# Altium footprint library DISCRETE_T1.PcbLib: 293 footprints (part 16 of 19)
Each footprint in its own frame and in the unit in brackets; x right, y up, seen from the top. Pads: shape width x height; smd on the part's side, far side on the other; paste and mask are expansions set on the pad; w line width, h text height; cw(c..) or ccw(c..) is an arc to the next point about the centre after c.
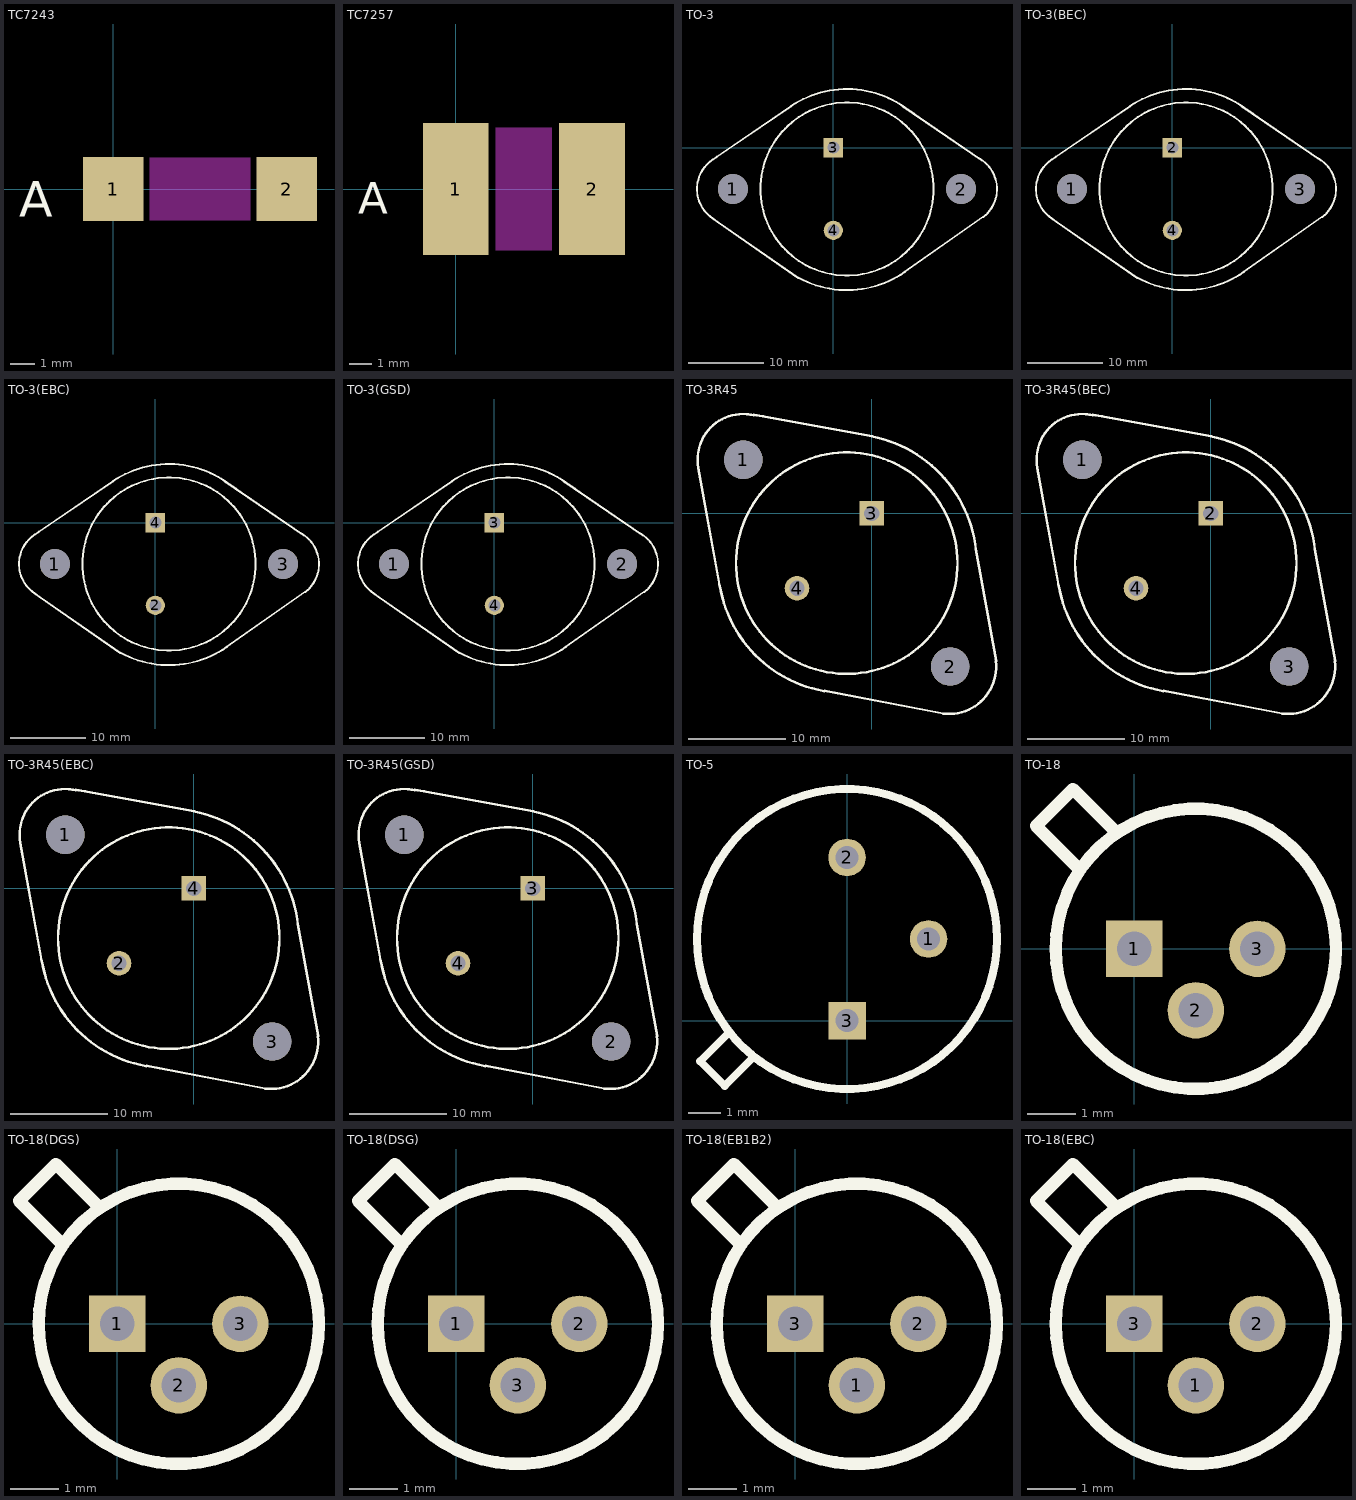
[diagram p15: the footprints below, top view; thin cyan lines are the x and y axes]

## TC7243 [mil]
pads (2):
  rect 96x102 smd: 1(0,0) 2(276,0)
Top Overlay:
  text "A" at -150,-44 h56.88
Multi-Layer keep-out:
  region: 218,-50 218,50 58,50 58,-50

## TC7257 [mil]
pads (2):
  rect 118x236 smd: 1(0,0) 2(244,0)
Top Overlay:
  text "A" at -175,-44 h56.88
Multi-Layer keep-out:
  region: 172,-110 172,110 72,110 72,-110

## TO-3 [mil]
pads (4):
  round 156 hole 156: 1(-523,-215) 2(665,-215)
  rect 100x100 hole 62: 3(0,0)
  round 100 hole 62: 4(0,-430)
Top Overlay:
  circle w10: c71,-215 r450
  lines w10: -640,-71 -604,-47 ; -630,-367 -183,-678 ; -628,-63 -218,217 ; -627.89,-62.46 ccw(c-525,-215) -617,-374.35 ; -219.78,216.1 cw(c71,-215) 369.26,210.96 ; -199.91,-665.87 ccw(c71,-215) 372.7,-645.87 ; 341,230 421,175 ; 359,217 773,-67 ; 363,-651 786,-354 ; 753.38,-52.54 cw(c667,-215) 780.28,-359.99

## TO-3(BEC) [mil]
pads (4):
  round 156 hole 156: 1(-523,-215) 3(665,-215)
  rect 100x100 hole 62: 2(0,0)
  round 100 hole 62: 4(0,-430)
Top Overlay:
  circle w10: c71,-215 r450
  lines w10: -640,-71 -604,-47 ; -630,-367 -183,-678 ; -628,-63 -218,217 ; -627.89,-62.46 ccw(c-525,-215) -617,-374.35 ; -219.78,216.1 cw(c71,-215) 369.26,210.96 ; -199.91,-665.87 ccw(c71,-215) 372.7,-645.87 ; 341,230 421,175 ; 359,217 773,-67 ; 363,-651 786,-354 ; 753.38,-52.54 cw(c667,-215) 780.28,-359.99

## TO-3(EBC) [mil]
pads (4):
  round 156 hole 156: 1(-523,-215) 3(665,-215)
  round 100 hole 62: 2(0,-430)
  rect 100x100 hole 62: 4(0,0)
Top Overlay:
  circle w10: c71,-215 r450
  lines w10: -640,-71 -604,-47 ; -630,-367 -183,-678 ; -628,-63 -218,217 ; -627.89,-62.46 ccw(c-525,-215) -617,-374.35 ; -219.78,216.1 cw(c71,-215) 369.26,210.96 ; -199.91,-665.87 ccw(c71,-215) 372.7,-645.87 ; 341,230 421,175 ; 359,217 773,-67 ; 363,-651 786,-354 ; 753.38,-52.54 cw(c667,-215) 780.28,-359.99

## TO-3(GSD) [mil]
pads (4):
  round 156 hole 156: 1(-523,-215) 2(665,-215)
  rect 100x100 hole 62: 3(0,0)
  round 100 hole 62: 4(0,-430)
Top Overlay:
  circle w10: c71,-215 r450
  lines w10: -640,-71 -604,-47 ; -630,-367 -183,-678 ; -628,-63 -218,217 ; -627.89,-62.46 ccw(c-525,-215) -617,-374.35 ; -219.78,216.1 cw(c71,-215) 369.26,210.96 ; -199.91,-665.87 ccw(c71,-215) 372.7,-645.87 ; 341,230 421,175 ; 359,217 773,-67 ; 363,-651 786,-354 ; 753.38,-52.54 cw(c667,-215) 780.28,-359.99

## TO-3R45 [mil]
pads (4):
  round 156 hole 156: 1(-522,218) 2(318,-622)
  rect 100x100 hole 62: 3(0,0)
  round 100 hole 62: 4(-304,-304)
Top Overlay:
  circle w10: c-102,-202 r450
  lines w10: -705,184 -615,-313 ; -704.62,184.89 cw(c-524,220) -479.49,398.53 ; -620,-289 -602,-360 ; -613.59,-316.53 ccw(c-103,-208) -193.64,-722.07 ; -503,403 -441,394 ; -479,401 2,314 ; -192,-720 290,-813 ; -1.25,313.3 cw(c-102,-205) 423.11,-149.81 ; 289.6,-813.57 ccw(c313,-623) 503.57,-599.6 ; 422,-145 506,-600

## TO-3R45(BEC) [mil]
pads (4):
  round 156 hole 156: 1(-522,218) 3(318,-622)
  rect 100x100 hole 62: 2(0,0)
  round 100 hole 62: 4(-304,-304)
Top Overlay:
  circle w10: c-102,-202 r450
  lines w10: -705,184 -615,-313 ; -704.62,184.89 cw(c-524,220) -479.49,398.53 ; -620,-289 -602,-360 ; -613.59,-316.53 ccw(c-103,-208) -193.64,-722.07 ; -503,403 -441,394 ; -479,401 2,314 ; -192,-720 290,-813 ; -1.25,313.3 cw(c-102,-205) 423.11,-149.81 ; 289.6,-813.57 ccw(c313,-623) 503.57,-599.6 ; 422,-145 506,-600

## TO-3R45(EBC) [mil]
pads (4):
  round 156 hole 156: 1(-522,218) 3(318,-622)
  round 100 hole 62: 2(-304,-304)
  rect 100x100 hole 62: 4(0,0)
Top Overlay:
  circle w10: c-102,-202 r450
  lines w10: -705,184 -615,-313 ; -704.62,184.89 cw(c-524,220) -479.49,398.53 ; -620,-289 -602,-360 ; -613.59,-316.53 ccw(c-103,-208) -193.64,-722.07 ; -503,403 -441,394 ; -479,401 2,314 ; -192,-720 290,-813 ; -1.25,313.3 cw(c-102,-205) 423.11,-149.81 ; 289.6,-813.57 ccw(c313,-623) 503.57,-599.6 ; 422,-145 506,-600

## TO-3R45(GSD) [mil]
pads (4):
  round 156 hole 156: 1(-522,218) 2(318,-622)
  rect 100x100 hole 62: 3(0,0)
  round 100 hole 62: 4(-304,-304)
Top Overlay:
  circle w10: c-102,-202 r450
  lines w10: -705,184 -615,-313 ; -704.62,184.89 cw(c-524,220) -479.49,398.53 ; -620,-289 -602,-360 ; -613.59,-316.53 ccw(c-103,-208) -193.64,-722.07 ; -503,403 -441,394 ; -479,401 2,314 ; -192,-720 290,-813 ; -1.25,313.3 cw(c-102,-205) 423.11,-149.81 ; 289.6,-813.57 ccw(c313,-623) 503.57,-599.6 ; 422,-145 506,-600

## TO-5 [mil]
pads (3):
  round 46 hole 28: 1(100,100) 2(0,200)
  rect 46x46 hole 28: 3(0,0)
Top Overlay:
  circle w10: c0,100 r184
  lines w10: -145,-15 -180,-50 -150,-80 -115,-45

## TO-18 [mil]
pads (3):
  rect 46x46 hole 28: 1(0,0)
  round 46 hole 28: 2(50,-50) 3(100,0)
Top Overlay:
  circle w10: c50,0 r114
  lines w10: -45,65 -80,100 -50,130 -15,95

## TO-18(DGS) [mil]
pads (3):
  rect 46x46 hole 28: 1(0,0)
  round 46 hole 28: 2(50,-50) 3(100,0)
Top Overlay:
  circle w10: c50,0 r114
  lines w10: -45,65 -80,100 -50,130 -15,95

## TO-18(DSG) [mil]
pads (3):
  rect 46x46 hole 28: 1(0,0)
  round 46 hole 28: 2(100,0) 3(50,-50)
Top Overlay:
  circle w10: c50,0 r114
  lines w10: -45,65 -80,100 -50,130 -15,95

## TO-18(EB1B2) [mil]
pads (3):
  round 46 hole 28: 1(50,-50) 2(100,0)
  rect 46x46 hole 28: 3(0,0)
Top Overlay:
  circle w10: c50,0 r114
  lines w10: -45,65 -80,100 -50,130 -15,95

## TO-18(EBC) [mil]
pads (3):
  round 46 hole 28: 1(50,-50) 2(100,0)
  rect 46x46 hole 28: 3(0,0)
Top Overlay:
  circle w10: c50,0 r114
  lines w10: -45,65 -80,100 -50,130 -15,95